# Altium schematic symbol library TXB0108YZPR2.SchLib: 1 symbol
Pins are listed as number, name and electrical type; pins without a type are passive.

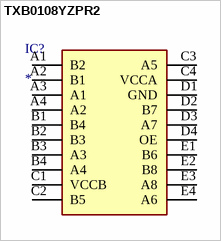
[diagram p0: symbol TXB0108YZPR2]

## TXB0108YZPR2
designator IC?
Integrated Circuit; Manufacturer_Name: Texas Instruments; Manufacturer_Part_Number: TXB0108YZPR2; Datasheet Link: http://www.ti.com/lit/gpn/TXB0108; Height: 0.5mm; Mouser2 Part Number: 595-TXB0108YZPR2; Mouser2 Price/Stock: https://www.mouser.com/Search/Refine.aspx?Keyword=595-TXB0108YZPR2
footprint BGA20C50P4X5_189X239X50
pins: A1 B2, A2 B1, A3 A1, A4 A2, B1 B4, B2 B3, B3 A3, B4 A4, C1 VCCB, C2 B5, C3 A5, C4 VCCA, D1 GND, D2 B7, D3 A7, D4 OE, E1 B6, E2 B8, E3 A8, E4 A6